# Altium schematic symbol library CONN_SMT.SchLib: 31 symbols
Pins are listed as number, name and electrical type; pins without a type are passive.

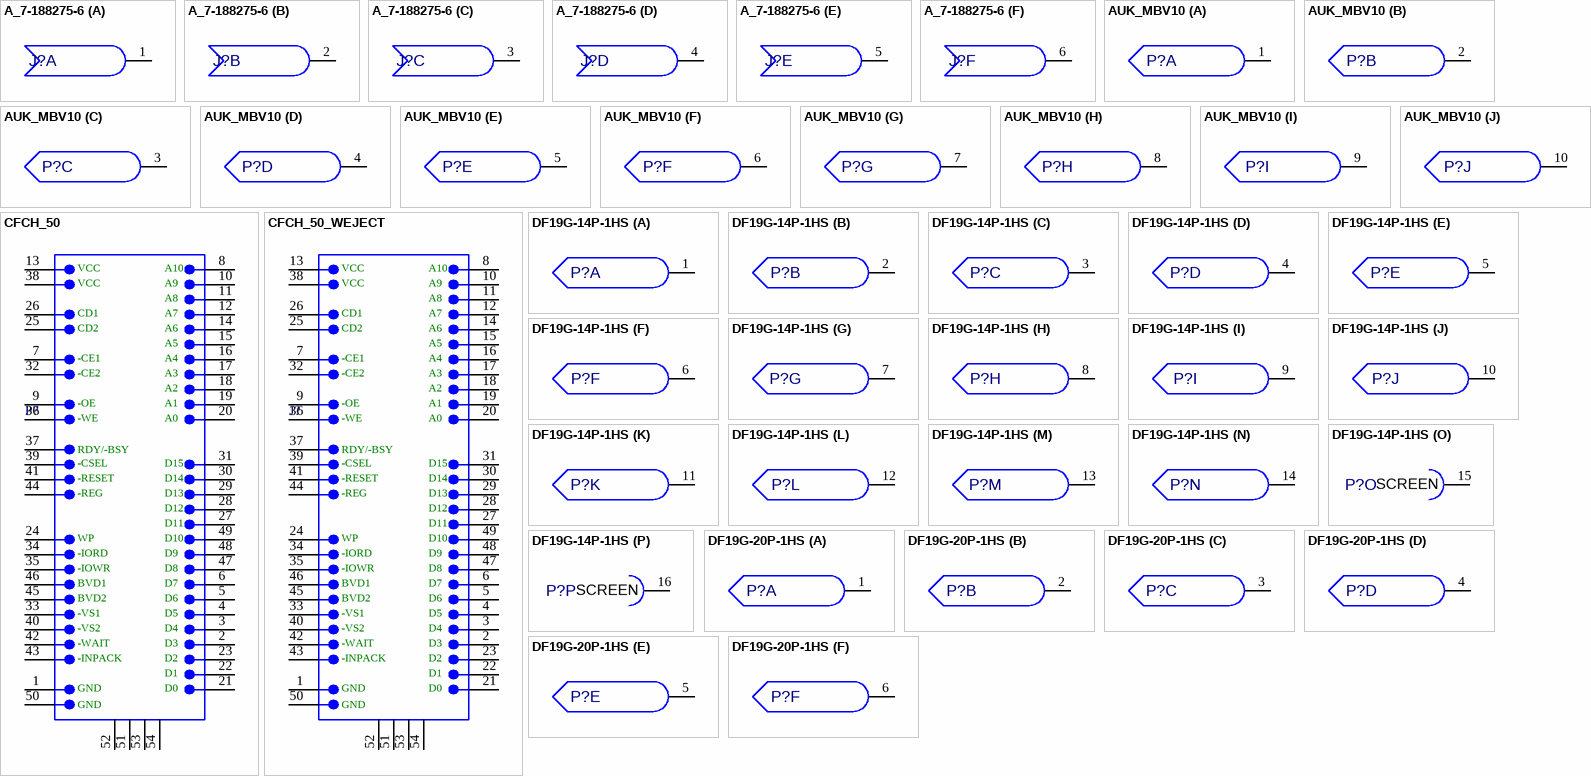
[diagram p0: symbols A_7-188275-6 to DF19G-20P-1HS]

## A_7-188275-6
designator J?, comment 70615-244  (value not drawn)
Connector, 6 Way Receptacle; Value: {Value}; ECAD_Revision: 1; Librarian: UK; PartNumber: 70615-244; HelpURL: *; Item: *; Power Rating: *; Tolerance: *
footprint A_7-188275-6 (Amp 188275 series 2.54 mm pitch, 6 way, jack. Rev. 1)
part A pins: 1 PIN
part B pins: 2 PIN
part C pins: 3 PIN
part D pins: 4 PIN
part E pins: 5 PIN
part F pins: 6 PIN
1 alternate drawing of the same symbol

## AUK_MBV10
designator P?, comment 70615-657  (value not drawn)
Connector, 10 Way Male Header SMD; Value: {Value}; ECAD_Revision: 1; Librarian: UK; PartNumber: 70615-657; HelpURL: *; Item: *; Power Rating: *; Tolerance: *
footprint MBV10 (Auk MBV series 2 mm pitch, 10 way, plug. Rev. 1)
part A pins: 1 PIN
part B pins: 2 PIN
part C pins: 3 PIN
part D pins: 4 PIN
part E pins: 5 PIN
part F pins: 6 PIN
part G pins: 7 PIN
part H pins: 8 PIN
part I pins: 9 PIN
part J pins: 10 PIN

## CFCH_50
designator P?, comment AWT25-500070  (value not drawn)
Connector, 50-Position; CompactFlash; ECAD_Revision: 2; Librarian: US; HelpURL: K:\ACCELEDA\PDF Spec Files\Connector\N7E50.pdf; PartNumber: AWT25-500070
footprint CFCH_50 (Connector; CompactFlash Card Header, SM; Normal Polarization; 50 Position; Right Angle; Pitch 0.635 mm)
pins: 1 "Power", 2 "General", 3 "General", 4 "General", 5 "General", 6 "General", 7 "General", 8 "General", 9 "General", 10 "General", 11 "General", 12 "General", 13 "Power", 14 "General", 15 "General", 16 "General", 17 "General", 18 "General", 19 "General", 20 "General", 21 "General", 22 "General", 23 "General", 24 "General", 25 "Detect", 26 "Detect", 27 "General", 28 "General", 29 "General", 30 "General", 31 "General", 32 "General", 33 "General", 34 "General", 35 "General", 36 "General", 37 "General", 38 "Power", 39 "General", 40 "General", 41 "General", 42 "General", 43 "General", 44 "General", 45 "General", 46 "General", 47 "General", 48 "General", 49 "General", 50 "Power", 51 MH1 "Through for M2", 52 MH2 "Through for M2", 53 MH3, 54 MH4
text: VCC; A10; A9; A8; CD1; A7; CD2; A6; A5; -CE1; A4; -CE2; A3; A2; -OE; A1; -WE; A0; RDY/-BSY; -CSEL; D15; -RESET; D14; -REG; D13; D12; D11; WP; D10; -IORD; D9; -IOWR; D8; BVD1; D7; BVD2; D6; -VS1; D5; -VS2; D4; -WAIT; D3; -INPACK; D2; D1; GND; D0

## CFCH_50_WEJECT
designator J?, comment AWT25-500070  (value not drawn)
Connector, 50-Position; CompactFlash; ECAD_Revision: 2; Librarian: US; Ejector P/N: AWT25-500071; HelpURL: K:\ACCELEDA\PDF Spec Files\Connector\N7E50.pdf; PartNumber: AWT25-500070
footprint CFCH_50 _WEJECT (Connector; CompactFlash Card Header, SM; Normal Polarization; 50 Position; Right Angle; Pitch 0.635 mm)
pins: 1 "Power", 2 "General", 3 "General", 4 "General", 5 "General", 6 "General", 7 "General", 8 "General", 9 "General", 10 "General", 11 "General", 12 "General", 13 "Power", 14 "General", 15 "General", 16 "General", 17 "General", 18 "General", 19 "General", 20 "General", 21 "General", 22 "General", 23 "General", 24 "General", 25 "Detect", 26 "Detect", 27 "General", 28 "General", 29 "General", 30 "General", 31 "General", 32 "General", 33 "General", 34 "General", 35 "General", 36 "General", 37 "General", 38 "Power", 39 "General", 40 "General", 41 "General", 42 "General", 43 "General", 44 "General", 45 "General", 46 "General", 47 "General", 48 "General", 49 "General", 50 "Power", 51 MH1 "Through for M2", 52 MH2 "Through for M2", 53 MH3, 54 MH4
text: VCC; A10; A9; A8; CD1; A7; CD2; A6; A5; -CE1; A4; -CE2; A3; A2; -OE; A1; -WE; A0; RDY/-BSY; -CSEL; D15; -RESET; D14; -REG; D13; D12; D11; WP; D10; -IORD; D9; -IOWR; D8; BVD1; D7; BVD2; D6; -VS1; D5; -VS2; D4; -WAIT; D3; -INPACK; D2; D1; GND; D0

## DF19G-14P-1HS
designator P?, comment 70613-318  (value not drawn)
Connector, 14 Way Receptacle; Value: {Value}; ECAD_Revision: 3; Librarian: UK; PartNumber: 70613-318; HelpURL: *; Item: *; Power Rating: *; Tolerance: *
footprint DF19G-14P-1H (HRS DF19 Series 1mm pitch, 14 way, board to cable, Rev.2)
part A pins: 1 PIN
part B pins: 2 PIN
part C pins: 3 PIN
part D pins: 4 PIN
part E pins: 5 PIN
part F pins: 6 PIN
part G pins: 7 PIN
part H pins: 8 PIN
part I pins: 9 PIN
part J pins: 10 PIN
part K pins: 11 PIN
part L pins: 12 PIN
part M pins: 13 PIN
part N pins: 14 PIN
part O pins: 15 PIN
part P pins: 16 PIN
part O text: SCREEN
part P text: SCREEN

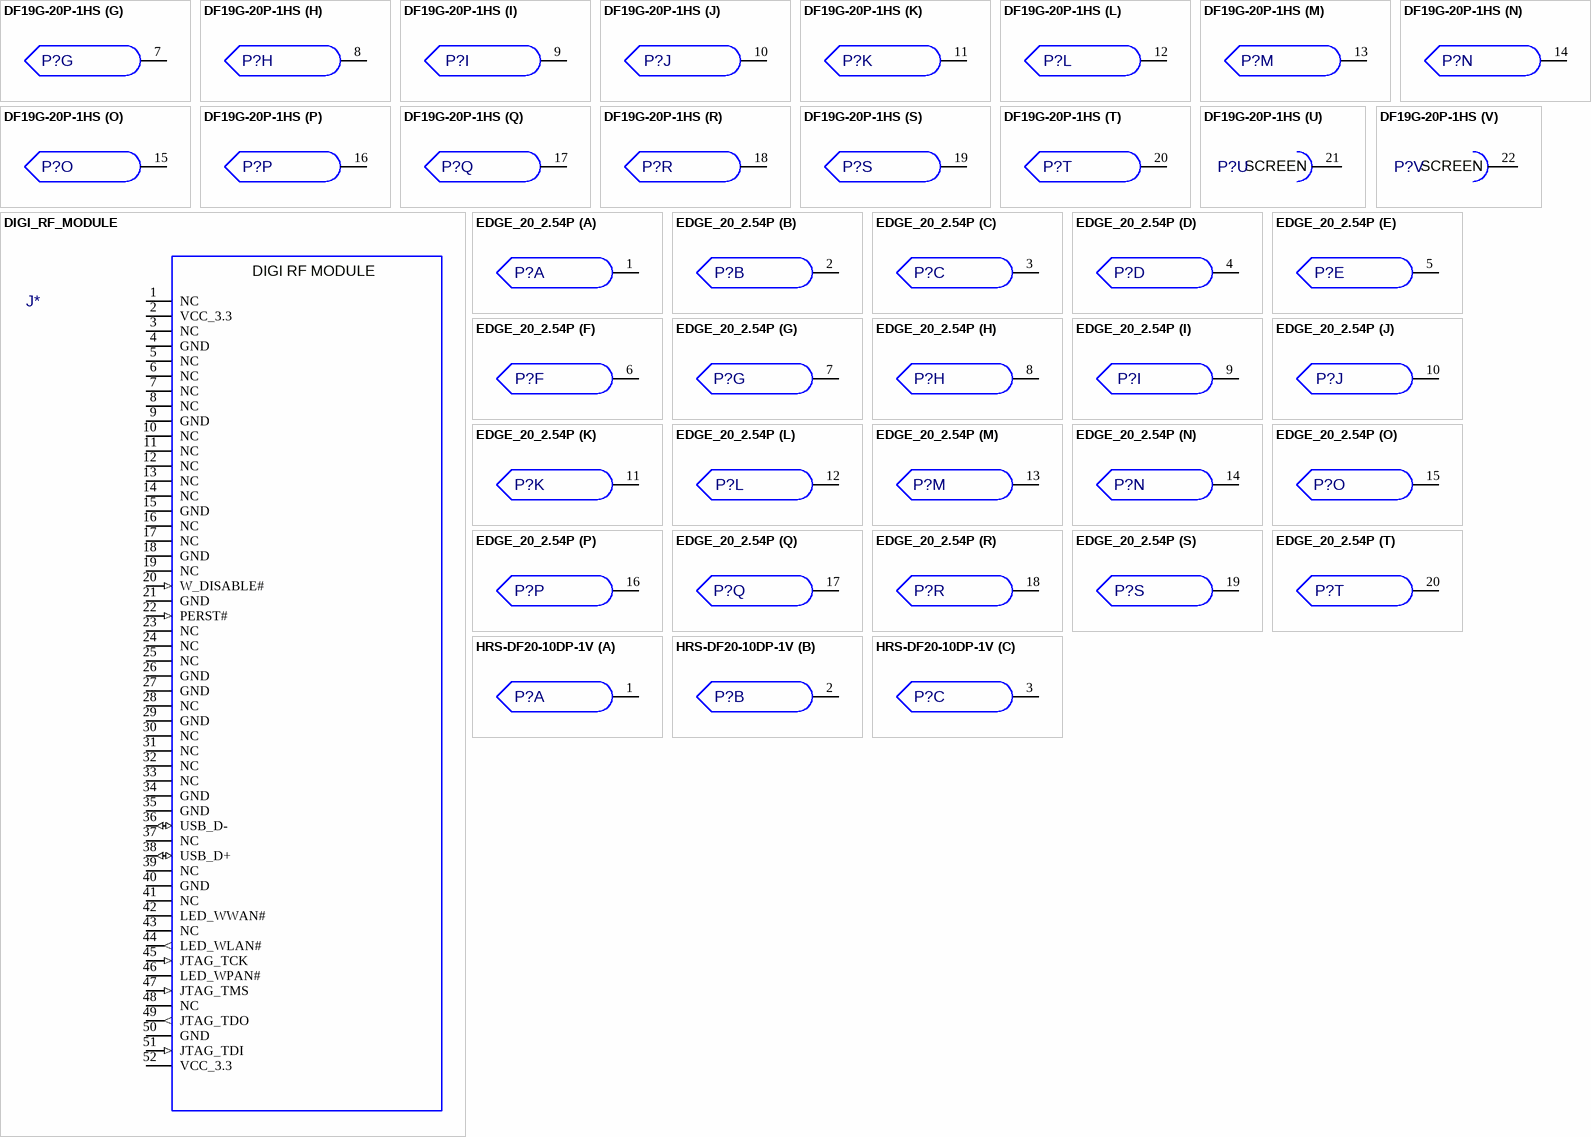
[diagram p1: symbols DF19G-20P-1HS to HRS-DF20-10DP-1V]

## DF19G-20P-1HS
designator P?, comment 70613-319  (value not drawn)
Connector, 20 Way Receptacle; Value: {Value}; ECAD_Revision: 2; Librarian: US; PartNumber: 70613-319; HelpURL: *; Item: *; Power Rating: *; Tolerance: *
footprint DF19G-20P-1H (HRS DF19 Series 1mm pitch, 20 way, board to cable, Rev.2)
part A pins: 1 PIN
part B pins: 2 PIN
part C pins: 3 PIN
part D pins: 4 PIN
part E pins: 5 PIN
part F pins: 6 PIN
part G pins: 7 PIN
part H pins: 8 PIN
part I pins: 9 PIN
part J pins: 10 PIN
part K pins: 11 PIN
part L pins: 12 PIN
part M pins: 13 PIN
part N pins: 14 PIN
part O pins: 15 PIN
part P pins: 16 PIN
part Q pins: 17 PIN
part R pins: 18 PIN
part S pins: 19 PIN
part T pins: 20 PIN
part U pins: 21
part V pins: 22
part U text: SCREEN
part V text: SCREEN

## DIGI_RF_MODULE
designator J*, comment AWT25-000155  (value not drawn)
CONNECTOR 52 WAY 0.8 PITCH RA FOR RF MODULE; Librarian: UK; ECAD_Revision: 1; PartNumber: AWT25-000155; Item: *
footprint DIGI_RF_MODULE (317-0100-084 REV1)
pins: 1 NC, 2 VCC_3.3, 3 NC, 4 GND, 5 NC, 6 NC, 7 NC, 8 NC, 9 GND, 10 NC, 11 NC, 12 NC, 13 NC, 14 NC, 15 GND, 16 NC, 17 NC, 18 GND, 19 NC, 20 W_DISABLE# (in), 21 GND, 22 PERST# (in), 23 NC, 24 NC, 25 NC, 26 GND, 27 GND, 28 NC, 29 GND, 30 NC, 31 NC, 32 NC, 33 NC, 34 GND, 35 GND, 36 USB_D- (io), 37 NC, 38 USB_D+ (io), 39 NC, 40 GND, 41 NC, 42 LED_WWAN#, 43 NC, 44 LED_WLAN# (out), 45 JTAG_TCK (in), 46 LED_WPAN#, 47 JTAG_TMS (in), 48 NC, 49 JTAG_TDO (out), 50 GND, 51 JTAG_TDI (in), 52 VCC_3.3
text: DIGI RF MODULE

## EDGE_20_2.54P
designator P?, comment none  (value not drawn)  (no BOM)
Connector, 20 Way Edge; Value: {Value}; ECAD_Revision: 1; Librarian: UK; PartNumber: none; HelpURL: *; Item: *; Power Rating: *; Tolerance: *
footprint EDGE_20_2.54P (20 way edge finger connector, both sides. Rev. 1)
part A pins: 1 PIN
part B pins: 2 PIN
part C pins: 3 PIN
part D pins: 4 PIN
part E pins: 5 PIN
part F pins: 6 PIN
part G pins: 7 PIN
part H pins: 8 PIN
part I pins: 9 PIN
part J pins: 10 PIN
part K pins: 11 PIN
part L pins: 12 PIN
part M pins: 13 PIN
part N pins: 14 PIN
part O pins: 15 PIN
part P pins: 16 PIN
part Q pins: 17 PIN
part R pins: 18 PIN
part S pins: 19 PIN
part T pins: 20 PIN
1 alternate drawing of the same symbol

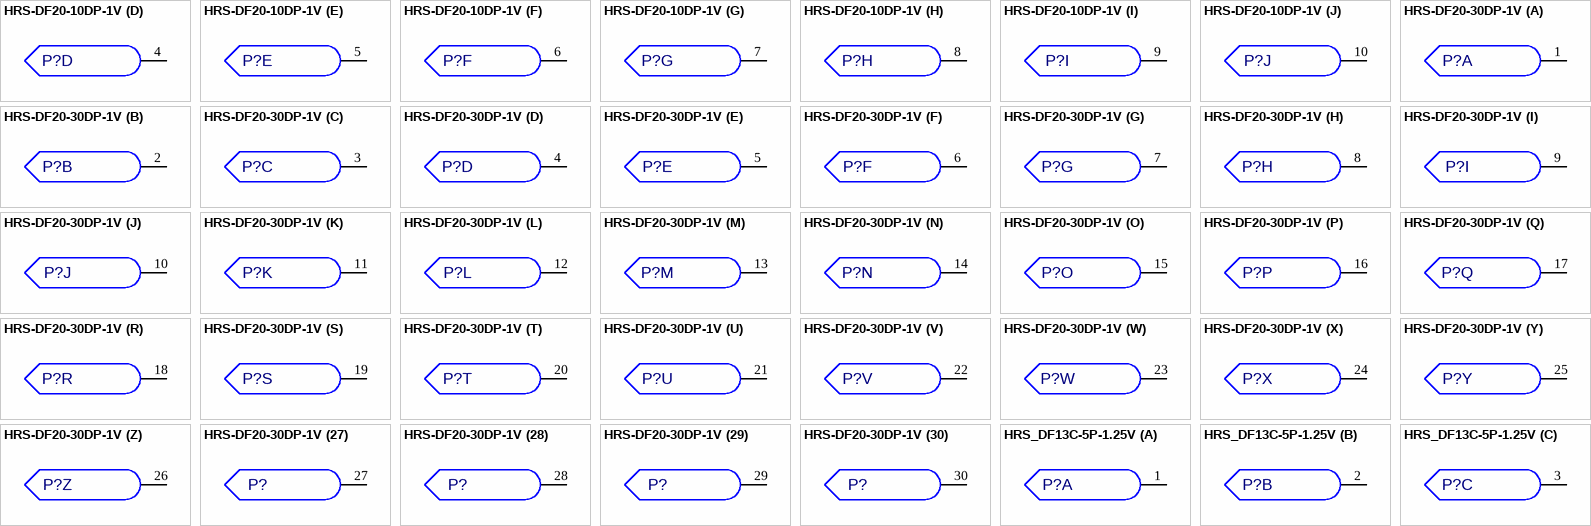
[diagram p2: symbols HRS-DF20-10DP-1V to HRS_DF13C-5P-1.25V]

## HRS-DF20-10DP-1V
designator P?, comment 70615-276  (value not drawn)
Connector, 10 Way Header; Value: {Value}; ECAD_Revision: 1; Librarian: UK; PartNumber: 70615-276; HelpURL: *; Item: *; Power Rating: *; Tolerance: *
footprint HRS_DF20-10DP-1V (Hirose DF20 series 1 mm pitch, 10 way, plug. Rev. 2)
part A pins: 1 PIN
part B pins: 2 PIN
part C pins: 3 PIN
part D pins: 4 PIN
part E pins: 5 PIN
part F pins: 6 PIN
part G pins: 7 PIN
part H pins: 8 PIN
part I pins: 9 PIN
part J pins: 10 PIN

## HRS-DF20-30DP-1V
designator P?, comment 70615-275  (value not drawn)
Connector, 30 Way Header; Value: {Value}; ECAD_Revision: 1; Librarian: UK; PartNumber: 70615-275; HelpURL: *; Item: *; Power Rating: *; Tolerance: *
footprint HRS_DF20-30DP-1V (Hirose DF20 series 1 mm pitch, 30 way, plug. Rev. 2)
part A pins: 1 PIN
part B pins: 2 PIN
part C pins: 3 PIN
part D pins: 4 PIN
part E pins: 5 PIN
part F pins: 6 PIN
part G pins: 7 PIN
part H pins: 8 PIN
part I pins: 9 PIN
part J pins: 10 PIN
part K pins: 11 PIN
part L pins: 12 PIN
part M pins: 13 PIN
part N pins: 14 PIN
part O pins: 15 PIN
part P pins: 16 PIN
part Q pins: 17 PIN
part R pins: 18 PIN
part S pins: 19 PIN
part T pins: 20 PIN
part U pins: 21 PIN
part V pins: 22 PIN
part W pins: 23 PIN
part X pins: 24 PIN
part Y pins: 25 PIN
part Z pins: 26 PIN
part 27 pins: 27 PIN
part 28 pins: 28 PIN
part 29 pins: 29 PIN
part 30 pins: 30 PIN
1 alternate drawing of the same symbol

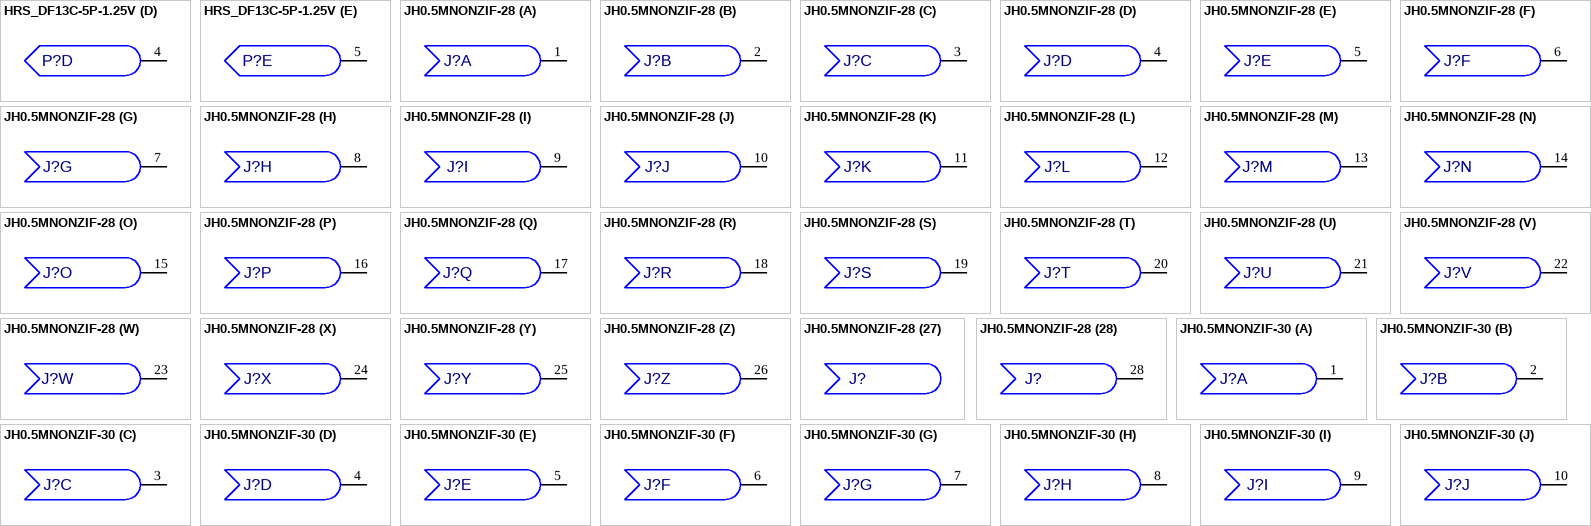
[diagram p3: symbols HRS_DF13C-5P-1.25V to JH0.5MNONZIF-30]

## HRS_DF13C-5P-1.25V
designator P?, comment 70615-254  (value not drawn)
Connector, 5 Way Plug Header; Value: {Value}; ECAD_Revision: 2; Librarian: UK; PartNumber: 70615-254; HelpURL: *; Item: *; Power Rating: *; Tolerance: *
footprint HRS_DF13C-5P-1.25V (HRS DF13 series 1.25 mm pitch, 5 way, plug., Rev. 2)
part A pins: 1 PIN
part B pins: 2 PIN
part C pins: 3 PIN
part D pins: 4 PIN
part E pins: 5 PIN

## JH0.5MNONZIF-28
designator J?, comment 52710-3121  (value not drawn)
Connector, 28 CONTACT; Value: {Value}; ECAD_Revision: 1; Librarian: US; PartNumber: 52710-3121; Item: *
footprint JH0.5MNONZIF-28
part A pins: 1 PIN
part B pins: 2 PIN
part C pins: 3 PIN
part D pins: 4 PIN
part E pins: 5 PIN
part F pins: 6 PIN
part G pins: 7 PIN
part H pins: 8 PIN
part I pins: 9 PIN
part J pins: 10 PIN
part K pins: 11 PIN
part L pins: 12 PIN
part M pins: 13 PIN
part N pins: 14 PIN
part O pins: 15 PIN
part P pins: 16 PIN
part Q pins: 17 PIN
part R pins: 18 PIN
part S pins: 19 PIN
part T pins: 20 PIN
part U pins: 21 PIN
part V pins: 22 PIN
part W pins: 23 PIN
part X pins: 24 PIN
part Y pins: 25 PIN
part Z pins: 26 PIN
part 27 pins: 27 PIN hidden
part 28 pins: 28 PIN

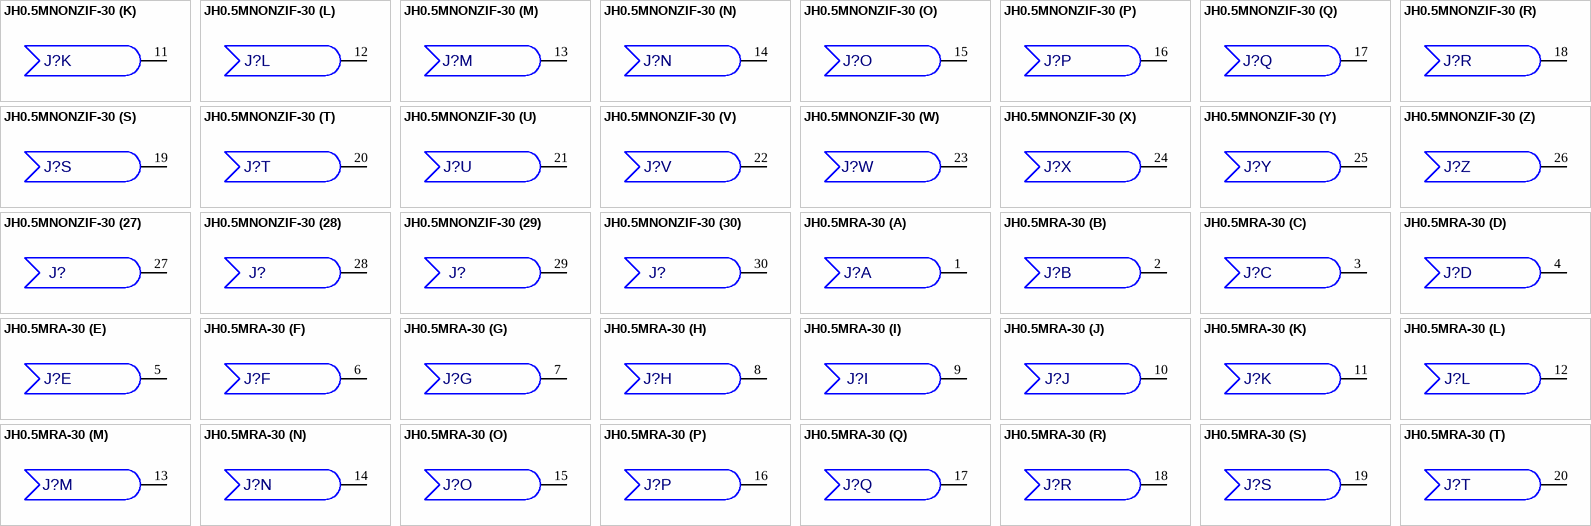
[diagram p4: symbols JH0.5MNONZIF-30 to JH0.5MRA-30]

## JH0.5MNONZIF-30
designator J?, comment 52710-3139  (value not drawn)
Connector, 30 CONTACT; Value: {Value}; ECAD_Revision: 1; Librarian: US; PartNumber: 52710-3139; Item: *
footprint JH0.5MNONZIF-30
part A pins: 1 PIN
part B pins: 2 PIN
part C pins: 3 PIN
part D pins: 4 PIN
part E pins: 5 PIN
part F pins: 6 PIN
part G pins: 7 PIN
part H pins: 8 PIN
part I pins: 9 PIN
part J pins: 10 PIN
part K pins: 11 PIN
part L pins: 12 PIN
part M pins: 13 PIN
part N pins: 14 PIN
part O pins: 15 PIN
part P pins: 16 PIN
part Q pins: 17 PIN
part R pins: 18 PIN
part S pins: 19 PIN
part T pins: 20 PIN
part U pins: 21 PIN
part V pins: 22 PIN
part W pins: 23 PIN
part X pins: 24 PIN
part Y pins: 25 PIN
part Z pins: 26 PIN
part 27 pins: 27 PIN
part 28 pins: 28 PIN
part 29 pins: 29 PIN
part 30 pins: 30 PIN

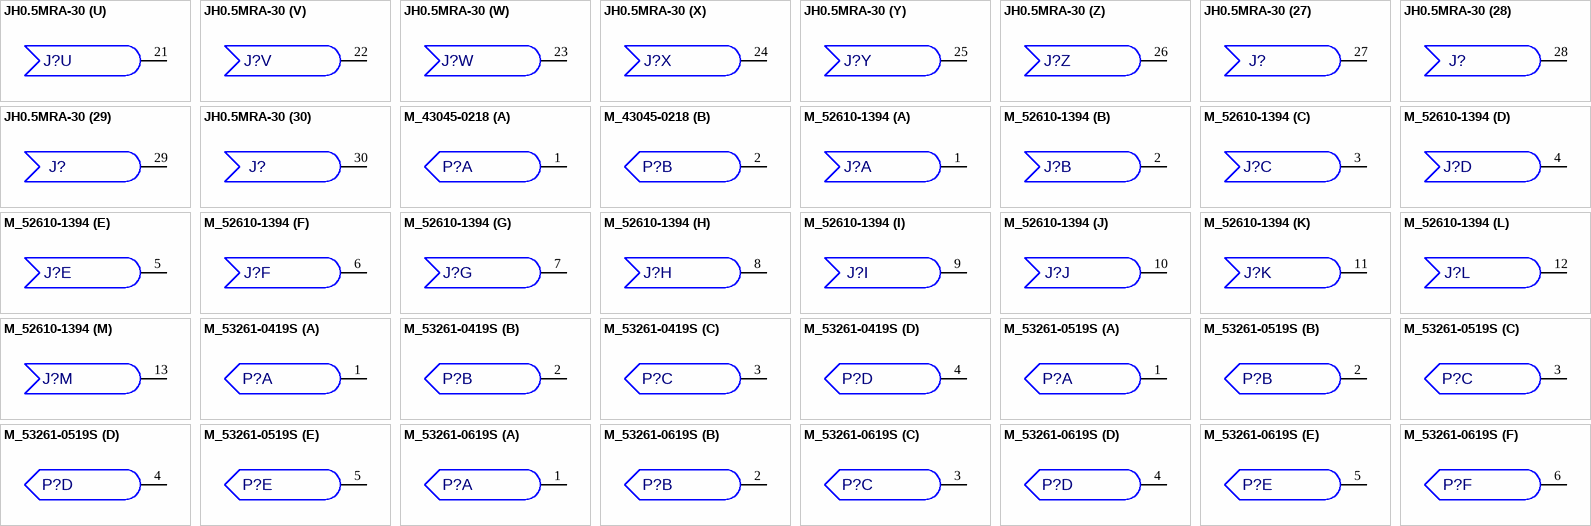
[diagram p5: symbols JH0.5MRA-30 to M_53261-0619S]

## JH0.5MRA-30
designator J?, comment AWT25-500069  (value not drawn)
Connector, 30 CONTACT RIGHT ANGLE; Value: {Value}; ECAD_Revision: 1; Librarian: US; PartNumber: AWT25-500069; Power Rating: *; Item: *
footprint JH0.5MRA-30
pins on every part: 31 GND hidden to GND, 32 GND hidden to GND
part A pins: 1 PIN
part B pins: 2 PIN
part C pins: 3 PIN
part D pins: 4 PIN
part E pins: 5 PIN
part F pins: 6 PIN
part G pins: 7 PIN
part H pins: 8 PIN
part I pins: 9 PIN
part J pins: 10 PIN
part K pins: 11 PIN
part L pins: 12 PIN
part M pins: 13 PIN
part N pins: 14 PIN
part O pins: 15 PIN
part P pins: 16 PIN
part Q pins: 17 PIN
part R pins: 18 PIN
part S pins: 19 PIN
part T pins: 20 PIN
part U pins: 21 PIN
part V pins: 22 PIN
part W pins: 23 PIN
part X pins: 24 PIN
part Y pins: 25 PIN
part Z pins: 26 PIN
part 27 pins: 27 PIN
part 28 pins: 28 PIN
part 29 pins: 29 PIN
part 30 pins: 30 PIN

## M_43045-0218
designator P?, comment 70613-287  (value not drawn)
Connector, 2 Way Plug; Value: {Value}; ECAD_Revision: 1; Librarian: UK; PartNumber: 70613-287; HelpURL: *; Item: *; Power Rating: *; Tolerance: *
footprint M_43045-0218 (Molex 43045-0281 series 0 mm pitch, 2 way, plug, Rev. 1)
part A pins: 1 PIN
part B pins: 2 PIN

## M_52610-1394
designator J?, comment 70612-1394  (value not drawn)
Connector, 13 way, Receptacle; Value: {Value}; ECAD_Revision: 1; Librarian: UK; PartNumber: 70612-1394; Item: *
part A pins: 1 PIN
part B pins: 2 PIN
part C pins: 3 PIN
part D pins: 4 PIN
part E pins: 5 PIN
part F pins: 6 PIN
part G pins: 7 PIN
part H pins: 8 PIN
part I pins: 9 PIN
part J pins: 10 PIN
part K pins: 11 PIN
part L pins: 12 PIN
part M pins: 13 PIN

## M_53261-0419S
designator P?, comment 70613-315  (value not drawn)
Connector, 4 Way Plug; Value: {Value}; ECAD_Revision: 2; Librarian: US; PartNumber: 70613-315; HelpURL: *; Item: *; Power Rating: *; Tolerance: *
footprint M_53261-0419 (Molex 53261 series 1.25 mm pitch, 4 way, plug)
part A pins: 1 PIN
part B pins: 2 PIN
part C pins: 3 PIN
part D pins: 4 PIN

## M_53261-0519S
designator P?, comment 70613-316  (value not drawn)
Connector, 5 Way Plug; Value: {Value}; ECAD_Revision: 2; Librarian: US; PartNumber: 70613-316; HelpURL: *; Item: *; Power Rating: *; Tolerance: *
footprint M_53261-0519 (Molex 53261 series 1.25 mm pitch, 5 way, plug)
part A pins: 1 PIN
part B pins: 2 PIN
part C pins: 3 PIN
part D pins: 4 PIN
part E pins: 5 PIN

## M_53261-0619S
designator P?, comment 70613-317  (value not drawn)
Connector, 6 Way Plug; Value: {Value}; ECAD_Revision: 2; Librarian: US; PartNumber: 70613-317; HelpURL: *; Item: *; Power Rating: *; Tolerance: *
footprint M_53261-0619 (Molex 53261 series 1.25 mm pitch, 6 way, plug)
part A pins: 1 PIN
part B pins: 2 PIN
part C pins: 3 PIN
part D pins: 4 PIN
part E pins: 5 PIN
part F pins: 6 PIN

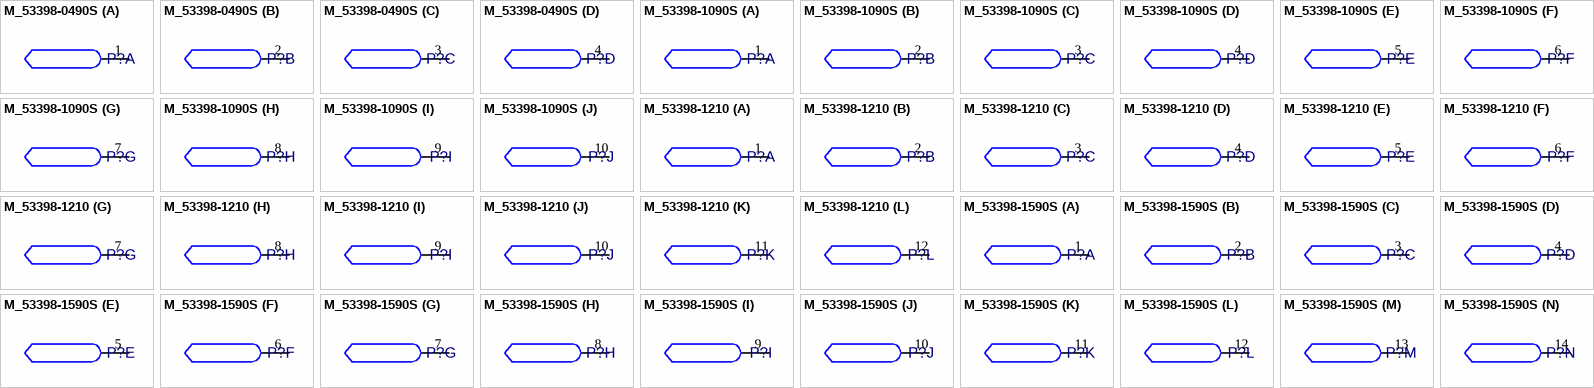
[diagram p6: symbols M_53398-0490S to M_53398-1590S]

## M_53398-0490S
designator P?, comment 70615-646  (value not drawn)
CONNECTOR 4 WAY 1.25mm HEADER; ECAD_Revision: 1; Librarian: UK; HelpURL: *; PartNumber: 70615-646
footprint M_53398-0490 (Molex 53398-04XX Rev.1)
footprint M_53398-0490-PIN_REV (Molex 53398-04XX Rev.1)
footprint Model Name (Model Description)
part A pins: 1 PIN
part B pins: 2 PIN
part C pins: 3 PIN
part D pins: 4 PIN

## M_53398-1090S
designator P?, comment 70615-654  (value not drawn)
CONNECTOR 10 WAY 1.25mm HEADER; ECAD_Revision: 2; Librarian: UK; HelpURL: *; PartNumber: 70615-654
footprint M_53398-1090 (Molex 53398-10XX Rev.1)
footprint M_53398-1090-PIN_REV (Molex 53398-10XX Rev.1)
part A pins: 1 PIN
part B pins: 2 PIN
part C pins: 3 PIN
part D pins: 4 PIN
part E pins: 5 PIN
part F pins: 6 PIN
part G pins: 7 PIN
part H pins: 8 PIN
part I pins: 9 PIN
part J pins: 10 PIN

## M_53398-1210
designator P?, comment AWT25-000238  (value not drawn)
CONNECTOR 12 WAY 1.25mm HEADER STRAIGHT; ECAD_Revision: 1; Librarian: UK; HelpURL: *; PartNumber: AWT25-000238
footprint M_53398-1210 (Molex 53398-1210 Rev.1)
part A pins: 1 PIN
part B pins: 2 PIN
part C pins: 3 PIN
part D pins: 4 PIN
part E pins: 5 PIN
part F pins: 6 PIN
part G pins: 7 PIN
part H pins: 8 PIN
part I pins: 9 PIN
part J pins: 10 PIN
part K pins: 11 PIN
part L pins: 12 PIN

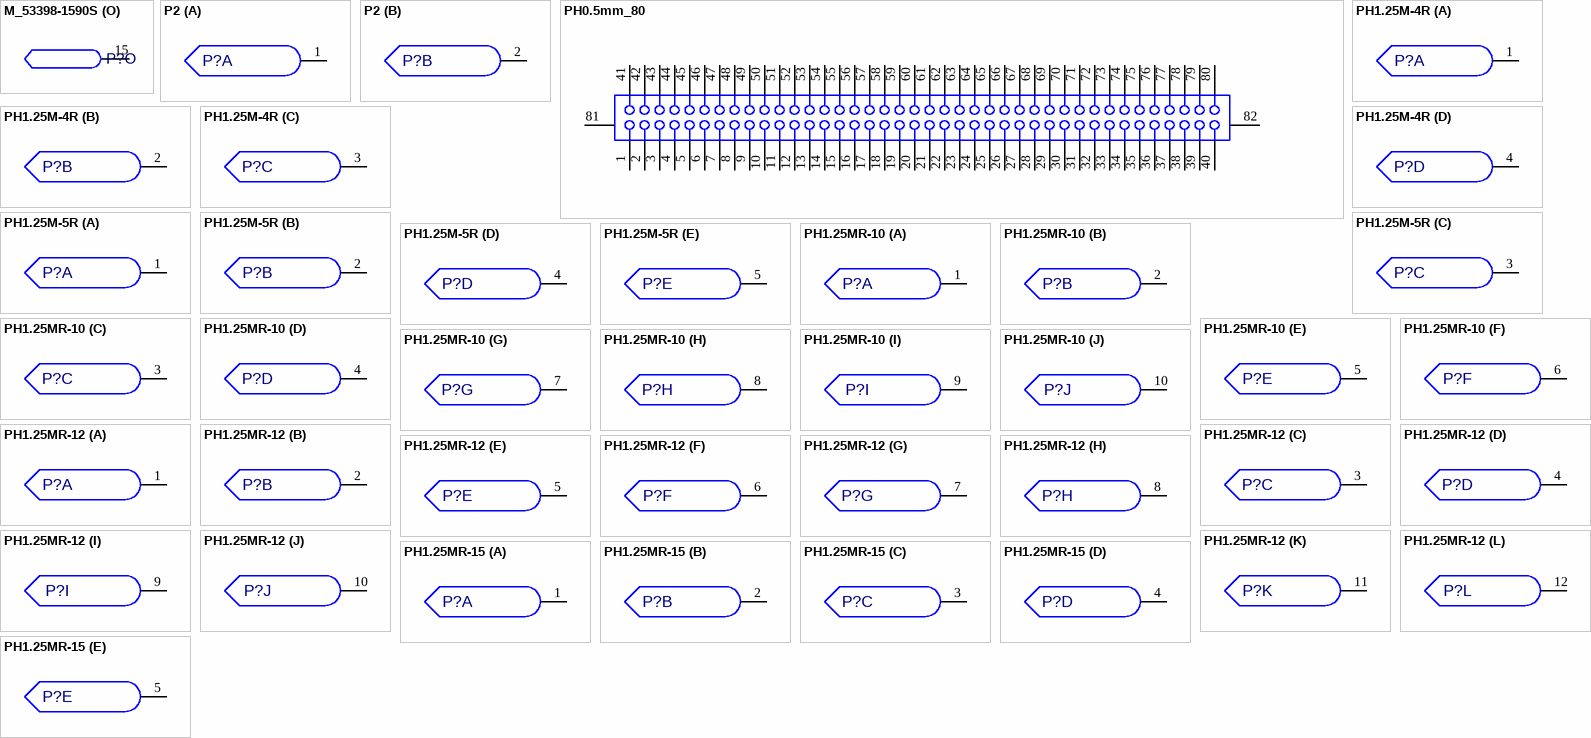
[diagram p7: symbols M_53398-1590S to PH1.25MR-15]

## M_53398-1590S
designator P?, comment 70615-648  (value not drawn)
CONNECTOR 15 WAY 1.25mm HEADER; ECAD_Revision: 1; Librarian: UK; HelpURL: *; PartNumber: 70615-648
footprint M_53398-1590 (Molex 53398-15XX Rev.1)
footprint M_53398-1590-PIN_REV (Molex 53398-15XX Rev.1)
part A pins: 1 PIN
part B pins: 2 PIN
part C pins: 3 PIN
part D pins: 4 PIN
part E pins: 5 PIN
part F pins: 6 PIN
part G pins: 7 PIN
part H pins: 8 PIN
part I pins: 9 PIN
part J pins: 10 PIN
part K pins: 11 PIN
part L pins: 12 PIN
part M pins: 13 PIN
part N pins: 14 PIN
part O pins: 15 PIN

## P2
designator P?, comment 17734-0015  (value not drawn)
Connector, 2 Pin Male; Value: {Value}; ECAD_Revision: 1; Librarian: US; PartNumber: 17734-0015; Item: *
part A pins: 1 PIN
part B pins: 2 PIN

## PH0.5mm_80
designator P?, comment AWT25-500072  (value not drawn)
Connector, High Density 80 pin; ECAD_Revision: 2; Librarian: US; HelpURL: K:\ACCELEDA\PDF Spec Files\Connector\df12rohs.pdf; PartNumber: AWT25-500072
footprint PH0.5mm_80
pins: 1, 2, 3, 4, 5, 6, 7, 8, 9, 10, 11, 12, 13, 14, 15, 16, 17, 18, 19, 20, 21, 22, 23, 24, 25, 26, 27, 28, 29, 30, 31, 32, 33, 34, 35, 36, 37, 38, 39, 40, 41, 42, 43, 44, 45, 46, 47, 48, 49, 50, 51, 52, 53, 54, 55, 56, 57, 58, 59, 60, 61, 62, 63, 64, 65, 66, 67, 68, 69, 70, 71, 72, 73, 74, 75, 76, 77, 78, 79, 80, 81 MH1, 82 MH2

## PH1.25M-4R
designator P?, comment AWT25-000234  (value not drawn)
Connector, 4 Way Plug Header Right Angle; Value: {Value}; ECAD_Revision: 1; Librarian: UK; PartNumber: AWT25-000234; HelpURL: *; Item: *; Power Rating: *; Tolerance: *
footprint PH1.25M-4R (HRS DF13 series 1.25 mm pitch, 4 way, plug., right angle. Rev. 1)
part A pins: 1 PIN
part B pins: 2 PIN
part C pins: 3 PIN
part D pins: 4 PIN

## PH1.25M-5R
designator P?, comment AWT25-000231  (value not drawn)
Connector, 5 Way Plug Header Right Angle; Value: {Value}; ECAD_Revision: 1; Librarian: UK; PartNumber: AWT25-000231; HelpURL: *; Item: *; Power Rating: *; Tolerance: *
footprint PH1.25M-5R (HRS DF13 series 1.25 mm pitch, 5 way, plug., right angle. Rev. 1)
part A pins: 1 PIN
part B pins: 2 PIN
part C pins: 3 PIN
part D pins: 4 PIN
part E pins: 5 PIN

## PH1.25MR-10
designator P?, comment AWT25-000221  (value not drawn)
Connector, 10 Way Plug, RA, 1.25mm Pitch; Value: {Value}; ECAD_Revision: 1; Librarian: UK; PartNumber: AWT25-000221; HelpURL: *; Item: *; Power Rating: *; Tolerance: *
footprint PH1.25MR-10 (Molex 53261 series 1.25 mm pitch, 10 way, plug, Rev. 1)
part A pins: 1 PIN
part B pins: 2 PIN
part C pins: 3 PIN
part D pins: 4 PIN
part E pins: 5 PIN
part F pins: 6 PIN
part G pins: 7 PIN
part H pins: 8 PIN
part I pins: 9 PIN
part J pins: 10 PIN

## PH1.25MR-12
designator P?, comment AWT25-000227  (value not drawn)
Connector, 12 Way Plug, RA, 1.25mm Pitch; Value: {Value}; ECAD_Revision: 1; Librarian: UK; PartNumber: AWT25-000227; HelpURL: *; Item: *; Power Rating: *; Tolerance: *
footprint PH1.25MR-12 (Molex 53261 series 1.25 mm pitch, 12 way, plug, Rev. 1)
part A pins: 1 PIN
part B pins: 2 PIN
part C pins: 3 PIN
part D pins: 4 PIN
part E pins: 5 PIN
part F pins: 6 PIN
part G pins: 7 PIN
part H pins: 8 PIN
part I pins: 9 PIN
part J pins: 10 PIN
part K pins: 11 PIN
part L pins: 12 PIN

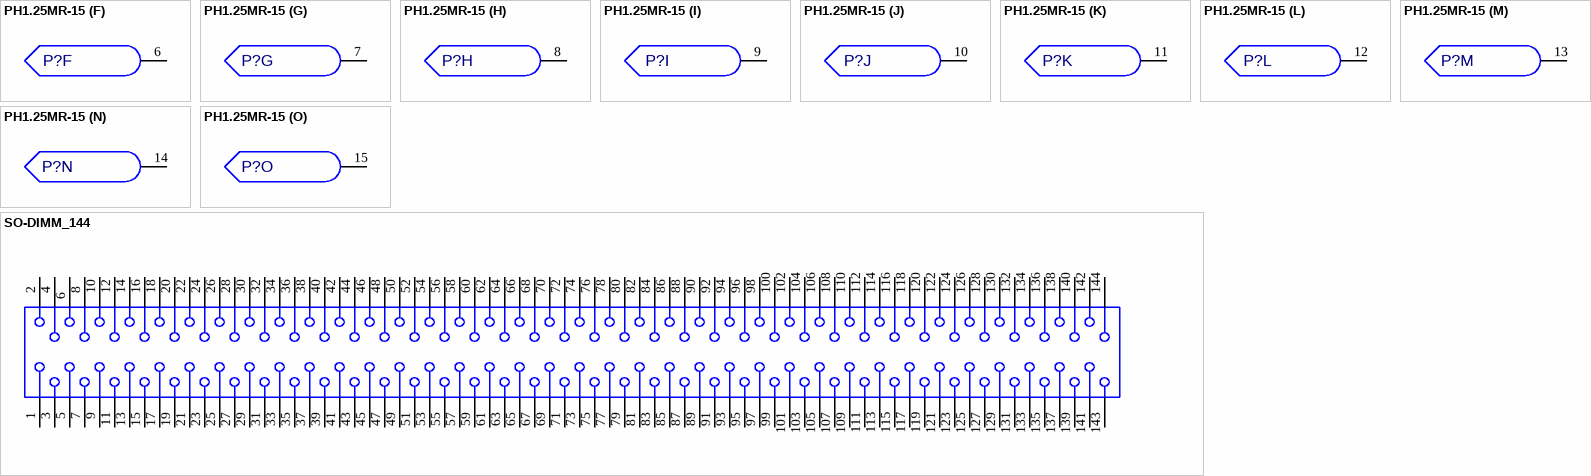
[diagram p8: symbols PH1.25MR-15 to SO-DIMM_144]

## PH1.25MR-15
designator P?, comment AWT25-000206  (value not drawn)
Connector, 15 Way Plug, RA, 1.25mm Pitch; Value: {Value}; ECAD_Revision: 2; Librarian: UK; PartNumber: AWT25-000206; HelpURL: *; Item: *; Power Rating: *; Tolerance: *
footprint PH1.25MR-15 (Molex 53261 series 1.25 mm pitch, 15 way, plug, Rev. 1)
part A pins: 1 PIN
part B pins: 2 PIN
part C pins: 3 PIN
part D pins: 4 PIN
part E pins: 5 PIN
part F pins: 6 PIN
part G pins: 7 PIN
part H pins: 8 PIN
part I pins: 9 PIN
part J pins: 10 PIN
part K pins: 11 PIN
part L pins: 12 PIN
part M pins: 13 PIN
part N pins: 14 PIN
part O pins: 15 PIN

## SO-DIMM_144
designator J?, comment AWT25-500068  (value not drawn)
Connector, 144 pin SO-DIMM Card Edge; ECAD_Revision: 2; Librarian: US; PartNumber: AWT25-500068; HelpURL: K:\ACCELEDA\PDF Spec Files\Connector\390112/pdf
footprint SO-DIMM_144
pins: 1, 2, 3, 4, 5, 6, 7, 8, 9, 10, 11, 12, 13, 14, 15, 16, 17, 18, 19, 20, 21, 22, 23, 24, 25, 26, 27, 28, 29, 30, 31, 32, 33, 34, 35, 36, 37, 38, 39, 40, 41, 42, 43, 44, 45, 46, 47, 48, 49, 50, 51, 52, 53, 54, 55, 56, 57, 58, 59, 60, 61, 62, 63, 64, 65, 66, 67, 68, 69, 70, 71, 72, 73, 74, 75, 76, 77, 78, 79, 80, 81, 82, 83, 84, 85, 86, 87, 88, 89, 90, 91, 92, 93, 94, 95, 96, 97, 98, 99, 100, 101, 102, 103, 104, 105, 106, 107, 108, 109, 110, 111, 112, 113, 114, 115, 116, 117, 118, 119, 120, 121, 122, 123, 124, 125, 126, 127, 128, 129, 130, 131, 132, 133, 134, 135, 136, 137, 138, 139, 140, 141, 142, 143, 144